# Altium footprint library COMPONENTES.PcbLib: 191 footprints (part 9 of 12)
Each footprint in its own frame and in the unit in brackets; x right, y up, seen from the top. Pads: shape width x height; smd on the part's side, far side on the other; paste and mask are expansions set on the pad; w line width, h text height; cw(c..) or ccw(c..) is an arc to the next point about the centre after c.
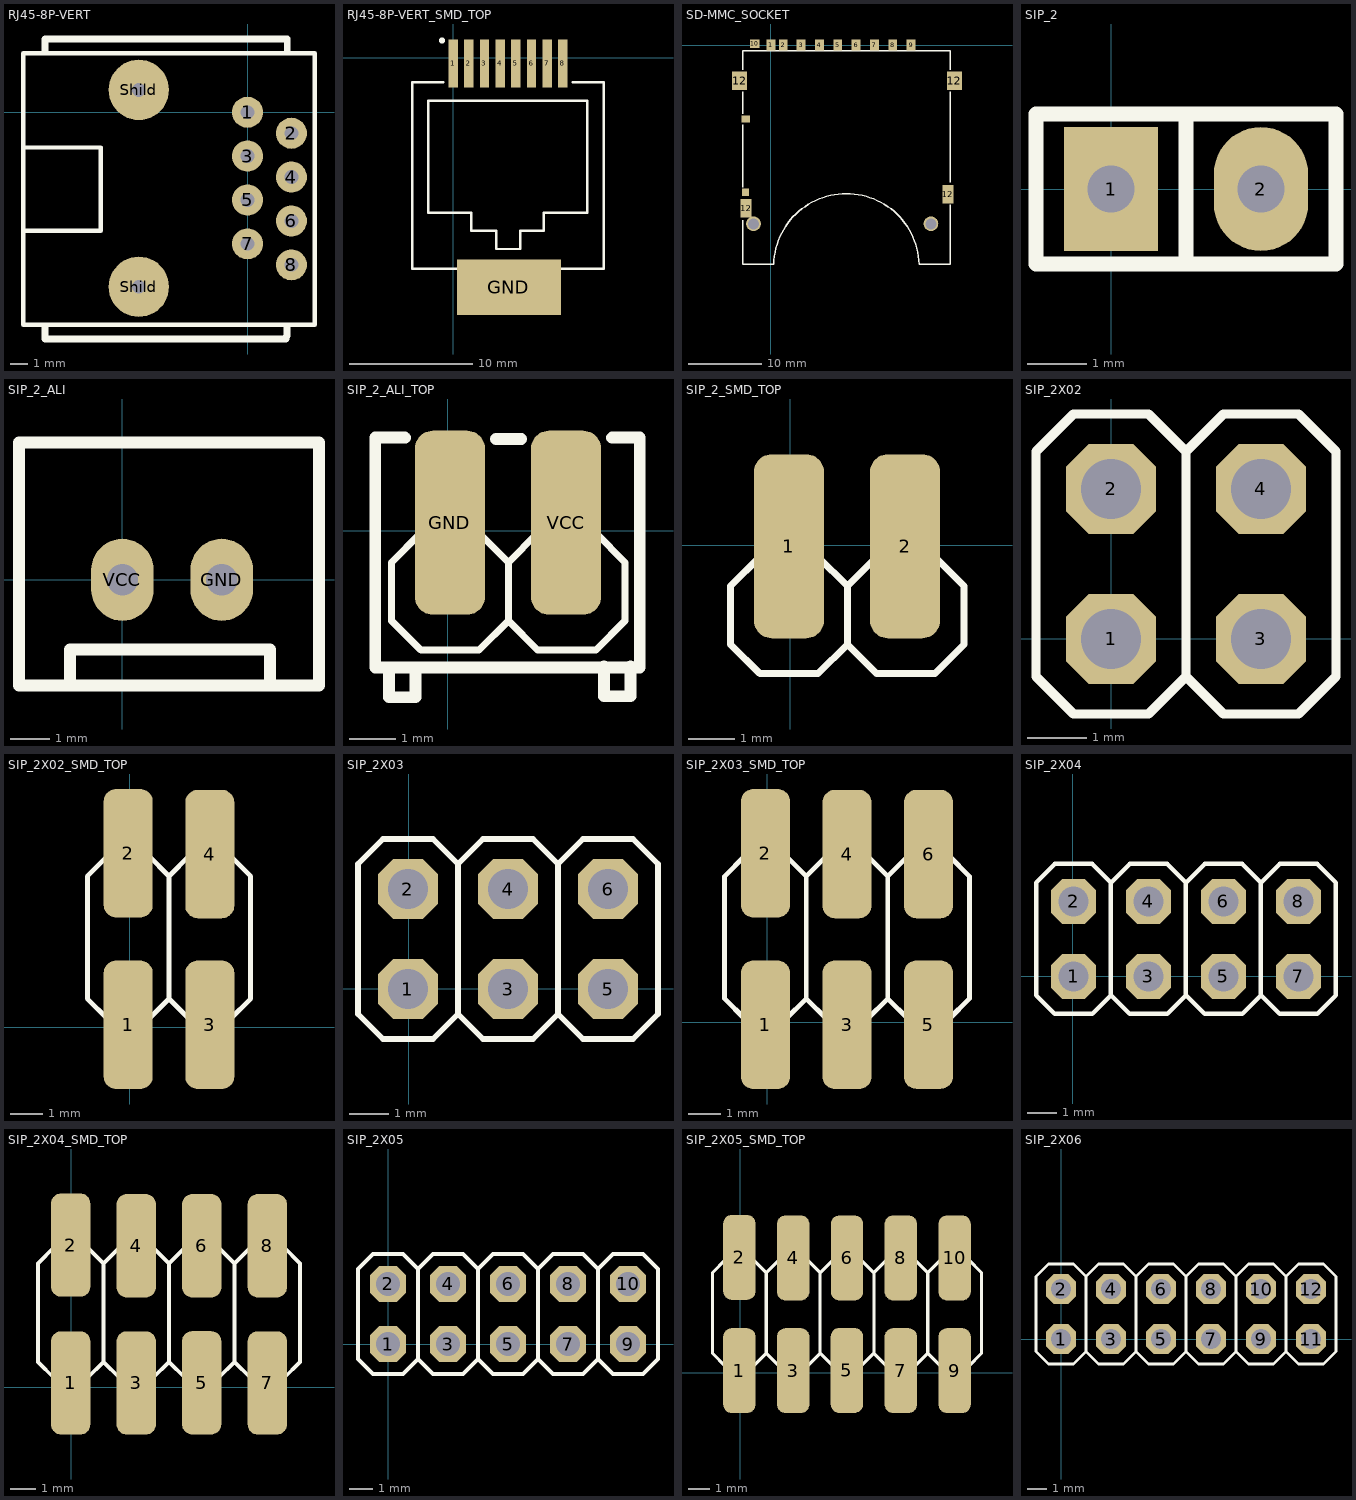
[diagram p8: the footprints below, top view; thin cyan lines are the x and y axes]

## RJ45-8P-VERT [mm]
height 2.65
pads (10):
  round 1.8 hole 0.8: 1(0,0) 2(2.54,-1.216) 3(0,-2.54) 4(2.54,-3.756) 5(0,-5.08) 6(2.54,-6.296) 7(0,-7.62) 8(2.54,-8.836)
  round 3.5 hole 0.8: Shild(-6.297,1.292) Shild(-6.297,-10.108)
Top Overlay:
  lines w0.254: -12.95,-6.853 -8.505,-6.853 -8.505,-2.043 -12.95,-2.043 ; -12.997,-12.313 -12.997,3.417 3.903,3.417 3.903,-12.313 -12.997,-12.313
  lines w0.4: -11.722,-12.433 -11.722,-13.133 2.228,-13.133 2.228,-13.008 2.278,-12.958 2.278,-12.383 ; -11.722,3.492 -11.722,4.242 2.303,4.242 2.303,3.567

## RJ45-8P-VERT_SMD_TOP [mm]
pads (9):
  rect 0.76x3.9 smd: 1(0,-0.475) 2(1.27,-0.475) 3(2.54,-0.475) 4(3.81,-0.475) 5(5.08,-0.475) 6(6.35,-0.475) 7(7.62,-0.475) 8(8.89,-0.475)
  rect 8.4x4.5 smd: GND(4.525,-18.585)
Top Overlay:
  circle w0.25: c-0.9,1.375 r0.125
  lines w0.2: -0.78,-1.985 -3.295,-1.985 -3.295,-17.085 0.26,-17.085 0.275,-17.1 ; 3.5,-15.5 3.5,-14.025 1.475,-14.025 1.475,-12.575 -2,-12.575 -2,-3.5 10.876,-3.5 10.85,-3.526 10.85,-12.575 7.325,-12.575 7.325,-14.025 5.425,-14.025 5.425,-15.5 3.525,-15.5 ; 8.775,-17.1 8.79,-17.085 12.185,-17.085 12.185,-1.985 9.67,-1.985

## SD-MMC_SOCKET [mm]
height 2
pads (18):
  rect 1.2x1.5 smd: 1(0,0) 2(1.688,-0.021) 3(4.108,-0.021) 4(6.608,-0.021) 5(9.108,-0.021) 6(11.608,-0.021) 7(14.108,-0.021) 8(16.608,-0.021) 9(19.108,-0.021)
  rect 1.3x1.1 smd: 10(-2.21,0.178)
  rect 1.15x1 smd: 11(-3.452,-10.071)
  rect 2x2.5 smd: 12(-4.272,-4.87) 12(25.028,-4.87)
  rect 1x1.05 smd: 12(-3.452,-20.071)
  rect 1.5x2.5 smd: 12(-3.372,-22.27) 12(24.13,-20.345)
  round 2 hole 1.5 unplated: ""(-2.372,-24.37) ""(21.828,-24.37)
Top Overlay:
  lines w0.203: -3.872,-23.87 -3.872,-29.87 0.388,-29.87 cw(c10.298,-30.168) 20.208,-29.871 24.478,-29.87 24.478,-21.742 ; -3.872,-19.371 -3.872,-10.87 ; -3.872,-9.371 -3.872,-6.371 ; -3.872,-3.371 -3.872,-0.771 24.478,-0.771 24.478,-3.371 ; 24.478,-18.694 24.478,-6.371

## SIP_2 [mm]
height 2.65
pads (2):
  rect 1.6x2.1 hole 0.8: 1(0,0)
  oval 1.6x2.1 hole 0.8: 2(2.54,0)
Top Overlay:
  lines w0.254: 1.27,-1.27 1.27,1.27 ; -1.27,-1.27 3.81,-1.27 3.81,1.27 -1.27,1.27 -1.27,-1.27

## SIP_2_ALI [mm]
height 2.65
pads (2):
  oval 1.6x2.1 hole 0.813: GND(2.54,0)
  oval 1.6x2.1 hole 0.8: VCC(0,0)
Top Overlay:
  lines w0.305: -2.647,3.491 -2.647,-2.709 5.028,-2.709 5.028,3.516 -2.647,3.516 ; -1.347,-2.609 -1.347,-1.784 3.778,-1.784 3.778,-2.684

## SIP_2_ALI_TOP [mm]
pads (2):
  rrect50% 1.524x4 smd: GND(0.05,0.18) VCC(2.575,0.18)
Top Overlay:
  lines w0.152: 1.32,-1.955 1.32,-0.685 ; 1.32,-1.955 0.685,-2.59 -0.585,-2.59 -1.22,-1.955 -1.22,-0.685 -0.585,-0.05 0.685,-0.05 1.32,-0.685 ; 1.32,-1.955 1.955,-2.59 3.225,-2.59 3.86,-1.955 3.86,-0.685 3.225,-0.05 1.955,-0.05 1.32,-0.685
  lines w0.254: -1.275,-2.97 -1.275,-3.62 -0.7,-3.62 -0.7,-2.97 ; -0.925,2.025 -0.93,2.03 -1.575,2.03 -1.575,-2.97 4.175,-2.97 4.175,2.03 3.58,2.03 3.575,2.025 ; 1.05,2 1.6,2 ; 3.4,-2.945 3.4,-3.595 3.975,-3.595 3.975,-2.945

## SIP_2_SMD_TOP [mm]
pads (2):
  rrect50% 1.524x4 smd: 1(-0.025,-0.025) 2(2.5,-0.025)
Top Overlay:
  lines w0.152: 1.245,-2.16 1.88,-2.795 3.15,-2.795 3.785,-2.16 3.785,-0.89 3.15,-0.255 1.88,-0.255 1.245,-0.89 ; 1.245,-2.16 0.61,-2.795 -0.66,-2.795 -1.295,-2.16 -1.295,-0.89 -0.66,-0.255 0.61,-0.255 1.245,-0.89 ; 1.245,-2.16 1.245,-0.89

## SIP_2X02 [mil]
height 104.33
pads (4):
  oct 60x60 hole 40: 1(0,0) 2(0,100) 3(100,0) 4(100,100)
Top Overlay:
  rectangle: 90,-10 110,10
  rectangle: 90,90 110,110
  rectangle: -10,90 10,110
  rectangle: -10,-10 10,10
  lines w6: 50,-25 50,125 ; 50,-25 75,-50 125,-50 150,-25 150,125 125,150 75,150 50,125 ; 50,-25 25,-50 -25,-50 -50,-25 -50,125 -25,150 25,150 50,125

## SIP_2X02_SMD_TOP [mm]
pads (4):
  rrect50% 1.524x4 smd: 1(-0.05,0.07) 2(-0.05,5.41) 3(2.49,0.07) 4(2.49,5.385)
Top Overlay:
  rectangle: 2.236,1.266 2.744,1.774
  rectangle: 2.236,3.806 2.744,4.314
  rectangle: -0.304,3.806 0.204,4.314
  rectangle: -0.304,1.266 0.204,1.774
  lines w0.152: 1.22,0.885 1.22,4.695 ; 1.22,0.885 1.855,0.25 3.125,0.25 3.76,0.885 3.76,4.695 3.125,5.33 1.855,5.33 1.22,4.695 ; 1.22,0.885 0.585,0.25 -0.685,0.25 -1.32,0.885 -1.32,4.695 -0.685,5.33 0.585,5.33 1.22,4.695

## SIP_2X03 [mil]
pads (6):
  oct 60x60 hole 40: 1(-0.98,0) 2(-0.98,100) 3(99.02,0) 4(99.02,100) 5(199.02,0) 6(199.02,100)
Top Overlay:
  rectangle: 189.02,-10 209.02,10
  rectangle: 189.02,90 209.02,110
  rectangle: 89.02,-10 109.02,10
  rectangle: 89.02,90 109.02,110
  rectangle: -10.98,90 9.02,110
  rectangle: -10.98,-10 9.02,10
  lines w6: 49.02,-25 49.02,125 ; 49.02,-25 74.02,-50 124.02,-50 149.02,-25 ; 49.02,-25 24.02,-50 -25.98,-50 -50.98,-25 -50.98,125 -25.98,150 24.02,150 49.02,125 ; 49.02,125 74.02,150 124.02,150 149.02,125 ; 149.02,-25 149.02,125 ; 149.02,-25 174.02,-50 224.02,-50 249.02,-25 249.02,125 224.02,150 174.02,150 149.02,125

## SIP_2X03_SMD_TOP [mm]
pads (6):
  rrect50% 1.524x4 smd: 1(-0.05,-0.08) 2(-0.05,5.26) 3(2.49,-0.08) 4(2.49,5.235) 5(5.025,-0.075) 6(5.03,5.235)
Top Overlay:
  rectangle: -0.304,1.116 0.204,1.624
  rectangle: -0.304,3.656 0.204,4.164
  rectangle: 2.236,3.656 2.744,4.164
  rectangle: 2.236,1.116 2.744,1.624
  rectangle: 4.776,3.656 5.284,4.164
  rectangle: 4.776,1.116 5.284,1.624
  lines w0.152: 1.22,0.735 0.585,0.1 -0.685,0.1 -1.32,0.735 -1.32,4.545 -0.685,5.18 0.585,5.18 1.22,4.545 ; 1.22,0.735 1.855,0.1 3.125,0.1 3.76,0.735 ; 1.22,0.735 1.22,4.545 ; 1.22,4.545 1.855,5.18 3.125,5.18 3.76,4.545 ; 3.76,0.735 4.395,0.1 5.665,0.1 6.3,0.735 6.3,4.545 5.665,5.18 4.395,5.18 3.76,4.545 ; 3.76,0.735 3.76,4.545

## SIP_2X04 [mil]
pads (8):
  oct 60x60 hole 40: 1(0.98,0) 2(0.98,100) 3(100.98,0) 4(100.98,100) 5(200.98,0) 6(200.98,100) 7(300.98,0) 8(300.98,100)
Top Overlay:
  rectangle: 290.98,-10 310.98,10
  rectangle: 290.98,90 310.98,110
  rectangle: 190.98,-10 210.98,10
  rectangle: 190.98,90 210.98,110
  rectangle: 90.98,-10 110.98,10
  rectangle: 90.98,90 110.98,110
  rectangle: -9.02,90 10.98,110
  rectangle: -9.02,-10 10.98,10
  lines w6: 50.98,-25 50.98,125 ; 50.98,-25 75.98,-50 125.98,-50 150.98,-25 ; 50.98,-25 25.98,-50 -24.02,-50 -49.02,-25 -49.02,125 -24.02,150 25.98,150 50.98,125 ; 50.98,125 75.98,150 125.98,150 150.98,125 ; 150.98,-25 150.98,125 ; 150.98,-25 175.98,-50 225.98,-50 250.98,-25 ; 150.98,125 175.98,150 225.98,150 250.98,125 ; 250.98,-25 250.98,125 ; 250.98,-25 275.98,-50 325.98,-50 350.98,-25 350.98,125 325.98,150 275.98,150 250.98,125

## SIP_2X04_SMD_TOP [mm]
pads (8):
  rrect50% 1.524x4 smd: 1(-0.025,0.175) 2(-0.025,5.515) 3(2.515,0.175) 4(2.515,5.49) 5(5.05,0.18) 6(5.055,5.49) 7(7.595,0.175) 8(7.595,5.49)
Top Overlay:
  rectangle: -0.279,1.371 0.229,1.879
  rectangle: -0.279,3.911 0.229,4.419
  rectangle: 2.261,3.911 2.769,4.419
  rectangle: 2.261,1.371 2.769,1.879
  rectangle: 4.801,3.911 5.309,4.419
  rectangle: 4.801,1.371 5.309,1.879
  rectangle: 7.341,3.911 7.849,4.419
  rectangle: 7.341,1.371 7.849,1.879
  lines w0.152: 1.245,0.99 0.61,0.355 -0.66,0.355 -1.295,0.99 -1.295,4.8 -0.66,5.435 0.61,5.435 1.245,4.8 ; 1.245,0.99 1.88,0.355 3.15,0.355 3.785,0.99 ; 1.245,0.99 1.245,4.8 ; 1.245,4.8 1.88,5.435 3.15,5.435 3.785,4.8 ; 3.785,0.99 4.42,0.355 5.69,0.355 6.325,0.99 ; 3.785,0.99 3.785,4.8 ; 3.785,4.8 4.42,5.435 5.69,5.435 6.325,4.8 ; 6.325,0.99 6.96,0.355 8.23,0.355 8.865,0.99 8.865,4.8 8.23,5.435 6.96,5.435 6.325,4.8 ; 6.325,0.99 6.325,4.8

## SIP_2X05 [mil]
pads (10):
  oct 60x60 hole 40: 1(0,0) 2(0,100) 3(100,0) 4(100,100) 5(200,0) 6(200,100) 7(300,0) 8(300,100) 9(400,0) 10(400,100)
Top Overlay:
  rectangle: 390,-10 410,10
  rectangle: 290,-10 310,10
  rectangle: 390,90 410,110
  rectangle: 290,90 310,110
  rectangle: 190,-10 210,10
  rectangle: 190,90 210,110
  rectangle: 90,-10 110,10
  rectangle: 90,90 110,110
  rectangle: -10,90 10,110
  rectangle: -10,-10 10,10
  lines w6: 50,-25 50,125 ; 50,-25 75,-50 125,-50 150,-25 ; 50,-25 25,-50 -25,-50 -50,-25 -50,125 -25,150 25,150 50,125 ; 50,125 75,150 125,150 150,125 ; 150,-25 150,125 ; 150,-25 175,-50 225,-50 250,-25 ; 150,125 175,150 225,150 250,125 ; 250,-25 250,125 ; 250,-25 275,-50 325,-50 350,-25 ; 250,125 275,150 325,150 350,125 ; 350,-25 350,125 ; 350,-25 375,-50 425,-50 450,-25 450,125 425,150 375,150 350,125

## SIP_2X05_SMD_TOP [mm]
pads (10):
  rrect50% 1.524x4 smd: 1(-0.05,0.1) 2(-0.05,5.44) 3(2.49,0.1) 4(2.49,5.415) 5(5.025,0.105) 6(5.03,5.415) 7(7.57,0.1) 8(7.57,5.415) 9(10.11,0.1) 10(10.11,5.415)
Top Overlay:
  rectangle: 9.856,1.296 10.364,1.804
  rectangle: 7.316,1.296 7.824,1.804
  rectangle: 9.856,3.836 10.364,4.344
  rectangle: 7.316,3.836 7.824,4.344
  rectangle: 4.776,1.296 5.284,1.804
  rectangle: 4.776,3.836 5.284,4.344
  rectangle: 2.236,1.296 2.744,1.804
  rectangle: 2.236,3.836 2.744,4.344
  rectangle: -0.304,3.836 0.204,4.344
  rectangle: -0.304,1.296 0.204,1.804
  lines w0.152: 1.22,0.915 1.22,4.725 ; 1.22,0.915 1.855,0.28 3.125,0.28 3.76,0.915 ; 1.22,0.915 0.585,0.28 -0.685,0.28 -1.32,0.915 -1.32,4.725 -0.685,5.36 0.585,5.36 1.22,4.725 ; 1.22,4.725 1.855,5.36 3.125,5.36 3.76,4.725 ; 3.76,0.915 3.76,4.725 ; 3.76,0.915 4.395,0.28 5.665,0.28 6.3,0.915 ; 3.76,4.725 4.395,5.36 5.665,5.36 6.3,4.725 ; 6.3,0.915 6.3,4.725 ; 6.3,0.915 6.935,0.28 8.205,0.28 8.84,0.915 ; 6.3,4.725 6.935,5.36 8.205,5.36 8.84,4.725 ; 8.84,0.915 8.84,4.725 ; 8.84,0.915 9.475,0.28 10.745,0.28 11.38,0.915 11.38,4.725 10.745,5.36 9.475,5.36 8.84,4.725

## SIP_2X06 [mil]
height 104.33
pads (12):
  oct 60x60 hole 40: 1(0,0) 2(0,100) 3(100,0) 4(100,100) 5(200,0) 6(200,100) 7(300,0) 8(300,100) 9(400,0) 10(400,100) 11(500,0) 12(500,100)
Top Overlay:
  rectangle: 490,-10 510,10
  rectangle: 490,90 510,110
  rectangle: 390,-10 410,10
  rectangle: 290,-10 310,10
  rectangle: 390,90 410,110
  rectangle: 290,90 310,110
  rectangle: 190,-10 210,10
  rectangle: 190,90 210,110
  rectangle: 90,-10 110,10
  rectangle: 90,90 110,110
  rectangle: -10,90 10,110
  rectangle: -10,-10 10,10
  lines w6: 50,-25 50,125 ; 50,-25 75,-50 125,-50 150,-25 ; 50,-25 25,-50 -25,-50 -50,-25 -50,125 -25,150 25,150 50,125 ; 50,125 75,150 125,150 150,125 ; 150,-25 150,125 ; 150,-25 175,-50 225,-50 250,-25 ; 150,125 175,150 225,150 250,125 ; 250,-25 250,125 ; 250,-25 275,-50 325,-50 350,-25 ; 250,125 275,150 325,150 350,125 ; 350,-25 350,125 ; 350,-25 375,-50 425,-50 450,-25 ; 350,125 375,150 425,150 450,125 ; 450,-25 475,-50 525,-50 550,-25 550,125 525,150 475,150 450,125 ; 450,-25 450,125